# EAGLE library part TSM200N03DPQ33_RGG (library TSM200N03DPQ33_RGG)
MOSFET MOSFET, Dual, N-Ch Trench, 30V, 20A Source: Datasheet <https://www.taiwansemi.com/products/datasheet/TSM200N03D_B1710.pdf>
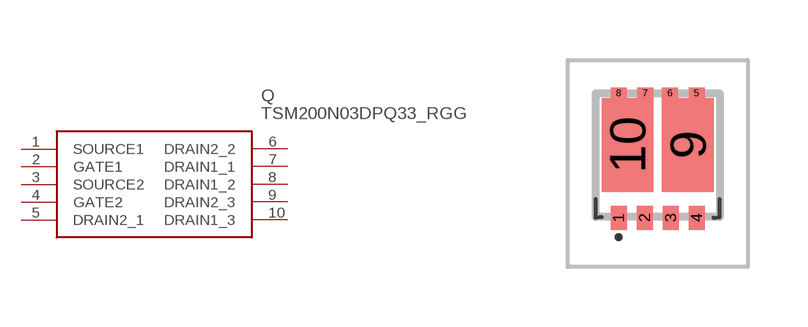
[diagram p0: symbol with the pads of TSM200N03DPQ33RGG; footprint TSM200N03DPQ33RGG]

Designator prefix Q

## TSM200N03DPQ33_RGG (Description: MOSFET MOSFET, Dual, N-Ch Trench, 30V, 20A; Height: 0.8mm; Manufacturer_Name: Taiwan Semiconductor; Manufacturer_Part_Number: TSM200N03DPQ33 RGG; Mouser_Part_Number: 821-TSM200N03DPQ33RG; Mouser_Price-Stock: https://www.mouser.co.uk/ProductDetail/Taiwan-Semiconductor/TSM200N03DPQ33-RGG?qs=BZBei1rCqCAHGBwVoEKNiA%3D%3D)  [TSM200N03DPQ33RGG]
1  SOURCE1
2  GATE1
3  SOURCE2
4  GATE2
5  DRAIN2_1
6  DRAIN2_2
7  DRAIN1_1
8  DRAIN1_2
9  DRAIN2_3
10  DRAIN1_3

## Footprint TSM200N03DPQ33RGG (pad centres in mm)
TSM200N03DPQ33 RGG-3
smd 0.4 x 0.6: 1 -0.975,-1.563; 2 -0.325,-1.563; 3 0.325,-1.563; 4 0.975,-1.563
smd 0.4 x 0.25: 5 0.975,1.563; 6 0.31,1.563; 7 -0.31,1.563; 8 -0.975,1.563
smd 1.29 x 2.35: 9 0.755,0.262; 10 -0.755,0.262